# Altium footprint library PcbLib1.PcbLib: 17 footprints (part 1 of 2)
Each footprint in its own frame and in the unit in brackets; x right, y up, seen from the top. Pads: shape width x height; smd on the part's side, far side on the other; paste and mask are expansions set on the pad; w line width, h text height; cw(c..) or ccw(c..) is an arc to the next point about the centre after c.
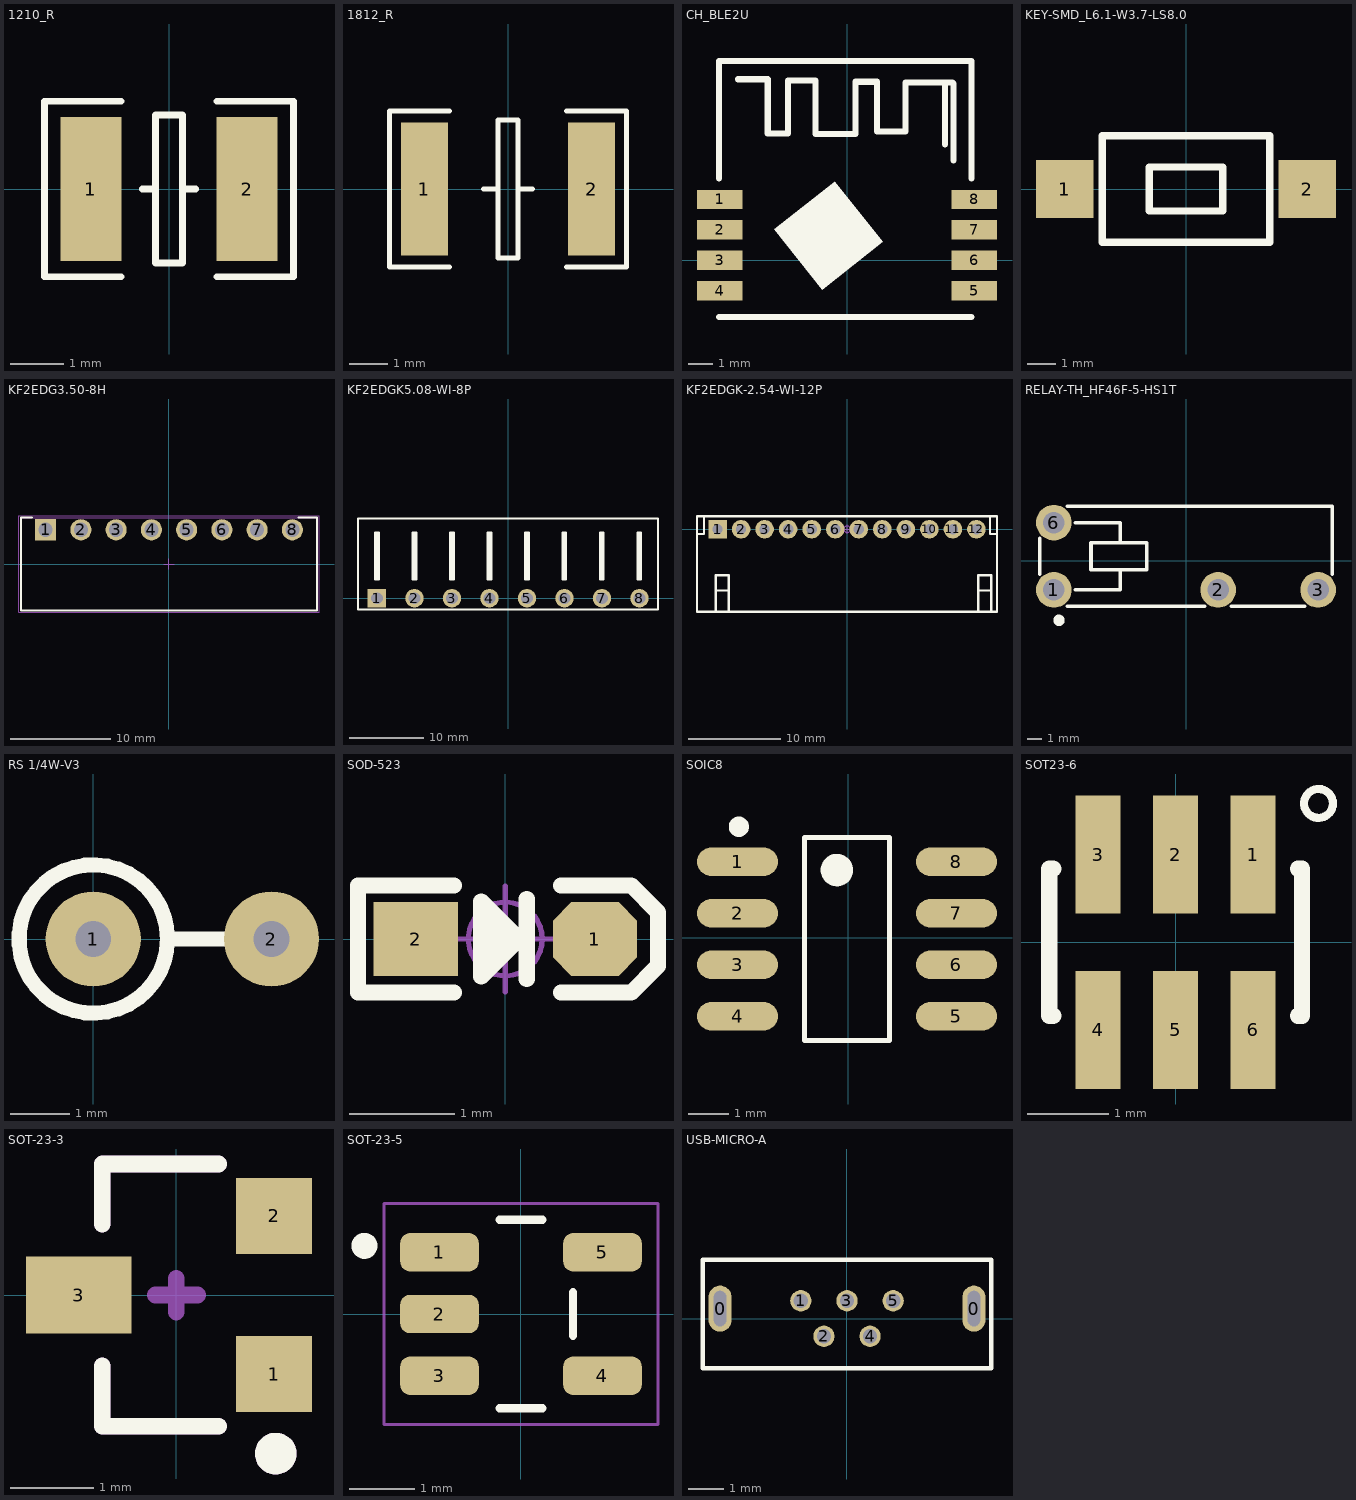
[diagram p0: the footprints below, top view; thin cyan lines are the x and y axes]

## 1210_R [mm]
pads (2):
  rect 1.16x2.72 smd: 1(-1.475,0) 2(1.475,0)
Top Overlay:
  lines w0.127: -0.9,-1.66 -2.355,-1.66 -2.355,1.66 -0.9,1.66 ; -0.508,0 -0.254,0 ; 0.254,0 0.508,0 ; 0.9,-1.66 2.355,-1.66 2.355,1.66 0.9,1.66 ; -0.254,-1.397 -0.254,1.397 0.254,1.397 0.254,-1.397 -0.254,-1.397
Top Designator:
  text ".Designator" at -4.521,-0.838 h1.52
3D body "User Library-R_1210.STEP": height 0.6, standoff 0, extent -1.6,-1.25 1.6,1.25

## 1812_R [mm]
pads (2):
  rect 1.2x3.42 smd: 1(-2.15,0) 2(2.15,0)
Top Overlay:
  lines w0.127: -1.5,-2.01 -3.05,-2.01 -3.05,2.01 -1.5,2.01 ; -0.635,0 -0.254,0 ; 0.254,0 0.635,0 ; 1.5,-2.01 3.05,-2.01 3.05,2.01 1.5,2.01 ; -0.254,-1.778 -0.254,1.778 0.254,1.778 0.254,-1.778 -0.254,-1.778
Top Designator:
  text ".Designator" at -6.147,-0.864 h1.52
3D body "R1812.STEP": height 0.59, standoff -0.01, extent -2.251,-1.6 2.249,1.6

## CH_BLE2U [mm]
pads (8):
  rect 1.9x0.8 smd: 1(-5.3,2.54) 2(-5.3,1.27) 3(-5.3,0) 4(-5.3,-1.27) 5(5.3,-1.27) 6(5.3,0) 7(5.3,1.27) 8(5.3,2.54)
Top Overlay:
  region: -1.032,-1.238 1.499,0.762 -0.506,3.298 -3.037,1.299
  lines w0.254: -5.334,-2.362 5.182,-2.362 ; -5.334,3.404 -5.334,8.306 5.182,8.306 5.182,3.404 ; -4.547,7.544 -3.302,7.544 -3.302,5.283 -2.464,5.283 -2.464,7.493 -1.321,7.493 -1.321,5.258 0.356,5.258 0.356,7.442 1.245,7.442 1.245,5.359 2.057,5.359 2.438,5.359 2.438,7.417 3.759,7.417 4.394,7.417 4.445,7.366 4.445,6.274 4.445,4.166 ; 4.077,4.826 4.077,7.417
Top Designator:
  text ".Designator" at -7.239,1.194 h1.52

## KEY-SMD_L6.1-W3.7-LS8.0 [mm]
pads (2):
  rect 2x2 smd: 1(-4.2,0) 2(4.2,0)
Top Overlay:
  lines w0.254: -2.9,-1.85 2.9,-1.85 2.9,1.85 -2.9,1.85 -2.9,-1.85 ; -1.27,-0.762 -1.27,0.762 1.27,0.762 1.27,-0.762 -1.27,-0.762
Top Designator:
  text ".Designator" at -6.248,-0.533 h1.52

## KF2EDG3.50-8H [mm]
pads (8):
  rect 2.1x2.1 hole 1.4: 1(-12.25,3.4)
  round 2.1 hole 1.4: 2(-8.75,3.4) 3(-5.25,3.4) 4(-1.75,3.4) 5(1.75,3.4) 6(5.25,3.4) 7(8.75,3.4) 8(12.25,3.4)
Top Overlay:
  lines w0.2: -13.6,4.6 -14.7,4.6 -14.7,-4.6 14.7,-4.6 14.7,4.6 12.85,4.6
Mechanical 13:
  lines w0.1: -14.7,-4.6 -14.7,4.6 14.7,4.6 14.7,-4.6 -14.7,-4.6
Mechanical 15:
  lines w0.05: -0.5,0 0.5,0 ; 0,-0.5 0,0.5 ; -14.9,-4.8 -14.9,4.8 14.9,4.8 14.9,-4.8 -14.9,-4.8
3D body "691322110008.stp": height 7.3, standoff -3.4, extent -14.7,-4.6 14.7,4.6

## KF2EDGK5.08-WI-8P [mm] "卧插端子"
pads (8):
  rect 2.5x2.5 hole 1.6: 1(-17.78,0)
  round 2.5 hole 1.6: 2(-12.7,0) 3(-7.62,0) 4(-2.54,0) 5(2.54,0) 6(7.62,0) 7(12.7,0) 8(17.78,0)
Top Overlay:
  lines w0.254: -17.78,2.54 -17.78,8.89 ; -12.7,2.54 -12.7,8.89 ; -7.62,2.54 -7.62,8.89 ; -2.54,2.54 -2.54,8.89 ; 2.54,2.54 2.54,8.89 ; 7.62,2.54 7.62,8.89 ; 12.7,2.54 12.7,8.89 ; 17.78,2.54 17.78,8.89 ; -17.78,8.89 -18.034,8.89 -18.034,2.54 -17.526,2.54 -17.526,8.89 -17.78,8.89 ; -12.7,8.89 -12.446,8.89 -12.446,2.54 -12.954,2.54 -12.954,8.89 -12.7,8.89 ; -7.62,8.89 -7.366,8.89 -7.366,2.54 -7.874,2.54 -7.874,8.89 -7.62,8.89 ; -2.54,8.89 -2.286,8.89 -2.286,2.54 -2.794,2.54 -2.794,8.89 -2.54,8.89 ; 2.54,8.89 2.794,8.89 2.794,2.54 2.286,2.54 2.286,8.89 2.54,8.89 ; 7.62,8.89 7.874,8.89 7.874,2.54 7.366,2.54 7.366,8.89 7.62,8.89 ; 12.7,8.89 12.954,8.89 12.954,2.54 12.446,2.54 12.446,8.89 12.7,8.89 ; 17.78,8.89 18.034,8.89 18.034,2.54 17.526,2.54 17.526,8.89 17.78,8.89 ; -20.345,-1.524 -20.345,10.795 20.295,10.795 20.295,-1.524 -20.345,-1.524
Top Designator:
  text ".Designator" at -7.595,4.928 h1.52
3D body "KF2EDGK-1P_H.STEP": height 8.5, standoff -3, extent 5.08,-0.5 10.16,10.8
3D body "KF2EDGK-1P_H.STEP": height 8.5, standoff -3, extent 10.16,-0.5 15.24,10.8
3D body "KF2EDGK-1P_H.STEP": height 8.5, standoff -3, extent -20.32,-0.5 -15.24,10.8
3D body "KF2EDGK-1P_H.STEP": height 8.5, standoff -3, extent -10.16,-0.5 -5.08,10.8
3D body "KF2EDGK-1P_H.STEP": height 8.5, standoff -3, extent -5.08,-0.5 0,10.8
3D body "KF2EDGK-1P_H.STEP": height 8.5, standoff -3, extent 15.24,-0.5 20.32,10.8
3D body "KF2EDGK-1P_H.STEP": height 8.5, standoff -3, extent 0,-0.5 5.08,10.8
3D body "KF2EDGK-1P_H.STEP": height 8.5, standoff -3, extent -15.24,-0.5 -10.16,10.8

## KF2EDGK-2.54-WI-12P [mm] "长：32.38mm，宽：10.1mm，高：8.1mm"
pads (12):
  rect 2x2 hole 1.1: 1(-13.97,0)
  round 2 hole 1.1: 2(-11.43,0) 3(-8.89,0) 4(-6.35,0) 5(-3.81,0) 6(-1.27,0) 7(1.27,0) 8(3.81,0) 9(6.35,0) 10(8.89,0) 11(11.43,0) 12(13.97,0)
Top Overlay:
  lines w0.254: -16.19,-0.518 -15.433,-0.518 -15.433,1.387 ; -16.19,1.387 -16.19,-8.9 16.19,-8.9 ; -16.19,1.397 16.19,1.397 16.19,-8.89 ; -14.158,-8.9 -14.158,-4.963 -12.761,-4.963 -12.761,-8.9 ; -14.158,-6.614 -12.761,-6.614 ; 14.158,-8.89 14.158,-4.953 15.555,-4.953 15.555,-8.89 ; 14.158,-6.604 15.555,-6.604 ; 15.433,1.397 15.433,-0.508 16.19,-0.508
Top Designator:
  text ".Designator" at -7.645,-4.597 h1.52
Mechanical 15:
  circle w0.05: c0,0 r0.35
  lines w0.05: -0.5,0 0.5,0 ; 0,-0.5 0,0.5
3D body "KF2EDGK-2.54-WI-12P.STEP": height 8.15, standoff -3.25, extent -16.19,-8.9 16.19,1.2

## PCBComponent_1 [mm]

## RELAY-TH_HF46F-5-HS1T [mm]
pads (4):
  round 2.5 hole 1.5: 1(-9.25,-2.032) 2(2.25,-2.032) 3(9.25,-2.032) 6(-9.25,2.668)
Top Overlay:
  circle w0.4: c-8.89,-4.166 r0.2
  lines w0.254: -10.25,-0.94 -10.25,1.577 ; -8.318,-3.182 1.318,-3.182 ; -8.318,3.818 10.25,3.818 ; -7.75,-2.032 -4.6,-2.032 -4.6,-0.682 ; -7.75,2.668 -4.6,2.668 -4.6,1.268 ; 3.182,-3.182 8.318,-3.182 ; 10.25,-0.94 10.25,3.738 ; -6.65,-0.632 -2.751,-0.632 -2.751,1.268 -6.65,1.268 -6.65,-0.632

## RS 1/4W-V3 [mm] "直插色环电阻，脚距3mm，直径2.3mm"
pads (2):
  round 1.6 hole 0.6: 1(0,0) 2(3,0)
Top Overlay:
  circle w0.254: c0,0 r1.25
  lines w0.254: 1.25,0 2.5,0
Top Designator:
  text ".Designator" at -5.512,-0.533 h1.52
Mechanical 15:
  circle w0.05: c0,0 r0.35
  lines w0.05: -0.5,0 0.5,0 ; 0,-0.5 0,0.5
3D body "RS 1-4W-V3.STEP": height 7.42, standoff -3.5, extent -1.16,-1.16 3.225,1.16

## SOD-523 [mm] "1.2x0.8X0.6mm（长宽高，不包括引脚）"
pads (2):
  oct 0.8x0.7 smd: 1(0.85,0)
  rect 0.8x0.7 smd: 2(-0.85,0)
Top Overlay:
  rectangle: -0.178,-0.178 0,0.178
  lines w0.152: -0.488,-0.508 -1.397,-0.508 -1.397,0.508 -0.488,0.508 ; -0.127,0 0.127,0 ; 0.203,-0.381 0.203,0.381 ; 0.528,-0.508 1.194,-0.508 1.448,-0.254 1.448,0.254 1.194,0.508 0.528,0.508 ; 0.127,0 -0.229,-0.356 -0.229,0.356 0.127,0
Top Designator:
  text ".Designator" at -5.207,-0.508 h1.52
Mechanical 15:
  circle w0.05: c0,0 r0.35
  lines w0.05: -0.5,0 0.5,0 ; 0,-0.5 0,0.5
3D body "SOD-523.STEP": height 0.65, standoff 0.05, extent -0.8,-0.4 0.8,0.4

## SOIC8 [mm] "SOIC, 8-Leads, Body 4.9x3.9mm, Pitch 1.27mm, IPC Low Density"
height 1.75
pads (8):
  oval 2x0.7 smd: 1(-2.725,1.88) 2(-2.725,0.61) 3(-2.725,-0.66) 4(-2.725,-1.93) 5(2.675,-1.93) 6(2.675,-0.66) 7(2.675,0.61) 8(2.675,1.88)
Top Overlay:
  circle w0.25: c-2.692,2.743 r0.125
  circle w0.4: c-0.275,1.675 r0.2
  lines w0.127: -1.075,-2.525 1.025,-2.525 1.025,2.475 -1.075,2.475 -1.075,-2.525
Top Designator:
  text ".Designator" at -6.299,-0.559 h1.52
3D body "SOIC127P600X175-8L.step": height 1.75, standoff 0, extent -2.924,-2.525 3.076,2.475

## SOT23-6 [mm] "SOT-23/SC-74A; 5 Leads; Body 3.1 x 3 mm, inc. leads (LxW max)"
height 1.45
pads (6):
  rect 0.55x1.45 smd: 1(0.95,1.075) 2(0,1.075) 3(-0.95,1.075) 4(-0.95,-1.075) 5(0,-1.075) 6(0.95,-1.075)
Top Overlay:
  circle w0.1: c1.753,1.702 r0.177
  lines w0.2: -1.5,-0.9 -1.55,-0.9 -1.55,0.9 -1.5,0.9 ; 1.5,-0.9 1.55,-0.9 1.55,0.9 1.5,0.9
Top Designator:
  text ".Designator" at -0.127,-0.102 h1.52
3D body "sot236.step": height 1, standoff 0, extent -1.435,-1.196 1.485,1.145

## SOT-23-3 [mm]
height 1
pads (3):
  rect 0.914x0.914 smd mask+0.07: 1(1.175,-0.95) 2(1.175,0.95)
  rect 1.27x0.924 smd: 3(-1.175,0)
Top Overlay:
  circle w0.25: c1.194,-1.905 r0.125
  lines w0.2: -0.889,-0.85 -0.889,-1.575 0.508,-1.575 ; -0.889,0.85 -0.889,1.575 0.508,1.575
Top Designator:
  text ".Designator" at -5.461,-0.381 h1.52
Top Assembly:
  circle w0.25: c1.194,-1.905 r0.125
  lines w0.2: -0.889,-0.85 -0.889,-1.575 0.508,-1.575 ; -0.889,0.85 -0.889,1.575 0.508,1.575
Top Component Center:
  lines w0.2: -0.254,0 0.254,0 ; 0,-0.203 0,0.203
Top Component Outline:
  circle w0.25: c1.194,-1.905 r0.125
  lines w0.2: -0.889,-0.85 -0.889,-1.575 0.508,-1.575 ; -0.889,0.85 -0.889,1.575 0.508,1.575
3D body "sot23-3.stp": height 1.1, standoff 0.01, extent -1.499,-1.55 1.502,1.55
3D body "0_7-1-sot-23.stp": height 0.02, standoff 0, extent -1.67,-0.344 -0.67,0.356
3D body "0_7-1-sot-23.stp": height 0.02, standoff 0, extent 0.68,0.606 1.68,1.306
3D body "0_7-1-sot-23.stp": height 0.02, standoff 0, extent 0.68,-1.294 1.68,-0.595

## SOT-23-5 [mm]
pads (5):
  rrect50% 1.21x0.59 smd: 1(-1.255,0.95) 2(-1.255,0) 3(-1.255,-0.95) 4(1.255,-0.95) 5(1.255,0.95)
Top Overlay:
  circle w0.2: c-2.41,1.05 r0.1
  lines w0.127: -0.33,-1.45 0.33,-1.45 ; -0.33,1.45 0.33,1.45 ; 0.8,-0.335 0.8,0.335
Top Designator:
  text ".Designator" at -5.055,-0.584 h1.52
Mechanical 15:
  lines w0.05: -2.11,-1.7 2.11,-1.7 2.11,1.7 -2.11,1.7 -2.11,-1.7
3D body "step_temp.STEP": height 1.45, standoff 0, extent -1.4,-1.45 1.4,1.45

## USB-MICRO-A [mm]
height 0.8
pads (7):
  oval 0.65x1.3 hole 0.35 slot 1 at 90 deg: 0(-3.575,0.28) 0(3.575,0.28)
  round 0.6 hole 0.4: 1(-1.3,0.5) 2(-0.65,-0.5) 3(0,0.5) 4(0.65,-0.5) 5(1.3,0.5)
Top Overlay:
  lines w0.127: -4.064,-1.397 4.063,-1.397 4.063,1.651 -4.064,1.651 -4.064,-1.397
Top Designator:
  text ".Designator" at -6.172,-0.61 h1.52
3D body "User.X_T": height 6.54, standoff -1.37, extent -4,-1.397 4,1.618